# Altium footprint library 796636-2.PcbLib: 1 footprints
Each footprint in its own frame and in the unit in brackets; x right, y up, seen from the top. Pads: shape width x height; smd on the part's side, far side on the other; paste and mask are expansions set on the pad; w line width, h text height; cw(c..) or ccw(c..) is an arc to the next point about the centre after c.
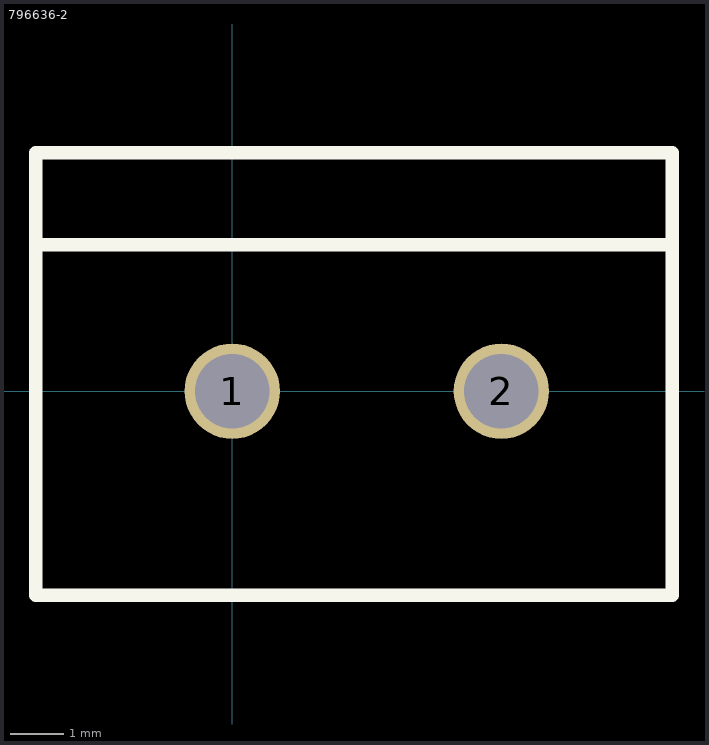
[diagram p0: the footprint, top view; thin cyan lines are the x and y axes]

## 796636-2 [mm] "11pos 5.08mm Eurostyle (Phoenix) terminal block header"
pads (2):
  round 1.8 hole 1.4: 1(0,0) 2(5.08,0)
Top Overlay:
  lines w0.254: -3.7,2.769 8.306,2.769 ; -3.708,-3.85 8.306,-3.85 8.306,4.5 -3.708,4.5 -3.708,-3.85
3D body: height 12, standoff -3.5, extent -3.704,-3.851 8.276,4.499